# EAGLE library part 101N1 (library _GE863)
101N1 GPS module (SiRF Star III LP - chip set)
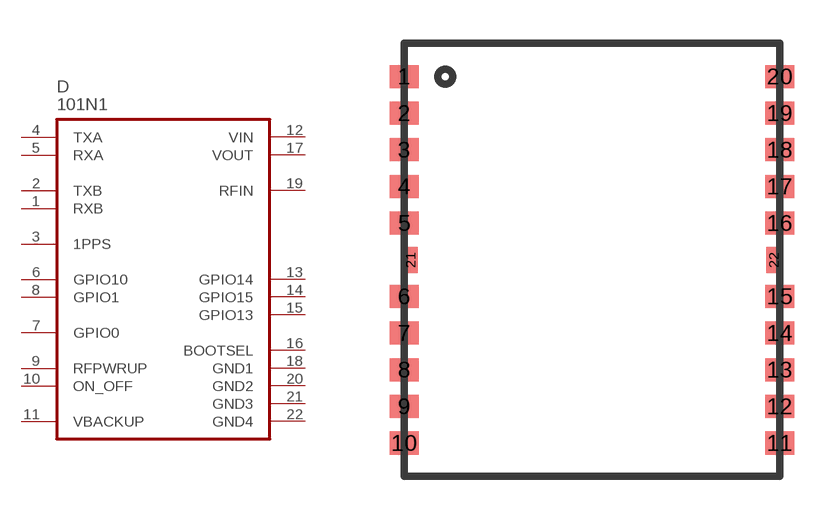
[diagram p6: symbol with the pads of 101N1; footprint 101N1]

Designator prefix D

## 101N1  [101N1]
1  RXB  in
2  TXB  out
3  1PPS  out
4  TXA  out
5  RXA  in
6  GPIO10  in
7  GPIO0  out
8  GPIO1  in
9  RFPWRUP  out
10  ON_OFF  in
11  VBACKUP  in
12  VIN  pwr
13  GPIO14
14  GPIO15
15  GPIO13
16  BOOTSEL  pas
17  VOUT  out
18  GND1  pwr
19  RFIN  in
20  GND2  pwr
21  GND3  pwr
22  GND4  pwr

## Footprint 101N1 (pad centres in mm)
smd 1 x 0.8: 1 -6.5,6.35; 2 -6.5,5.08; 3 -6.5,3.81; 4 -6.5,2.54; 5 -6.5,1.27; 6 -6.5,-1.27; 7 -6.5,-2.54; 8 -6.5,-3.81; 9 -6.5,-5.08; 10 -6.5,-6.35; 11 6.5,-6.35; 12 6.5,-5.08; 13 6.5,-3.81; 14 6.5,-2.54; 15 6.5,-1.27; 16 6.5,1.27; 17 6.5,2.54; 18 6.5,3.81; 19 6.5,5.08; 20 6.5,6.35
smd 0.5 x 0.9: 21 -6.287,0; 22 6.287,0